# Altium schematic symbol library PyESPCar_Z1.SCHLIB: 23 symbols
Pins are listed as number, name and electrical type; pins without a type are passive.

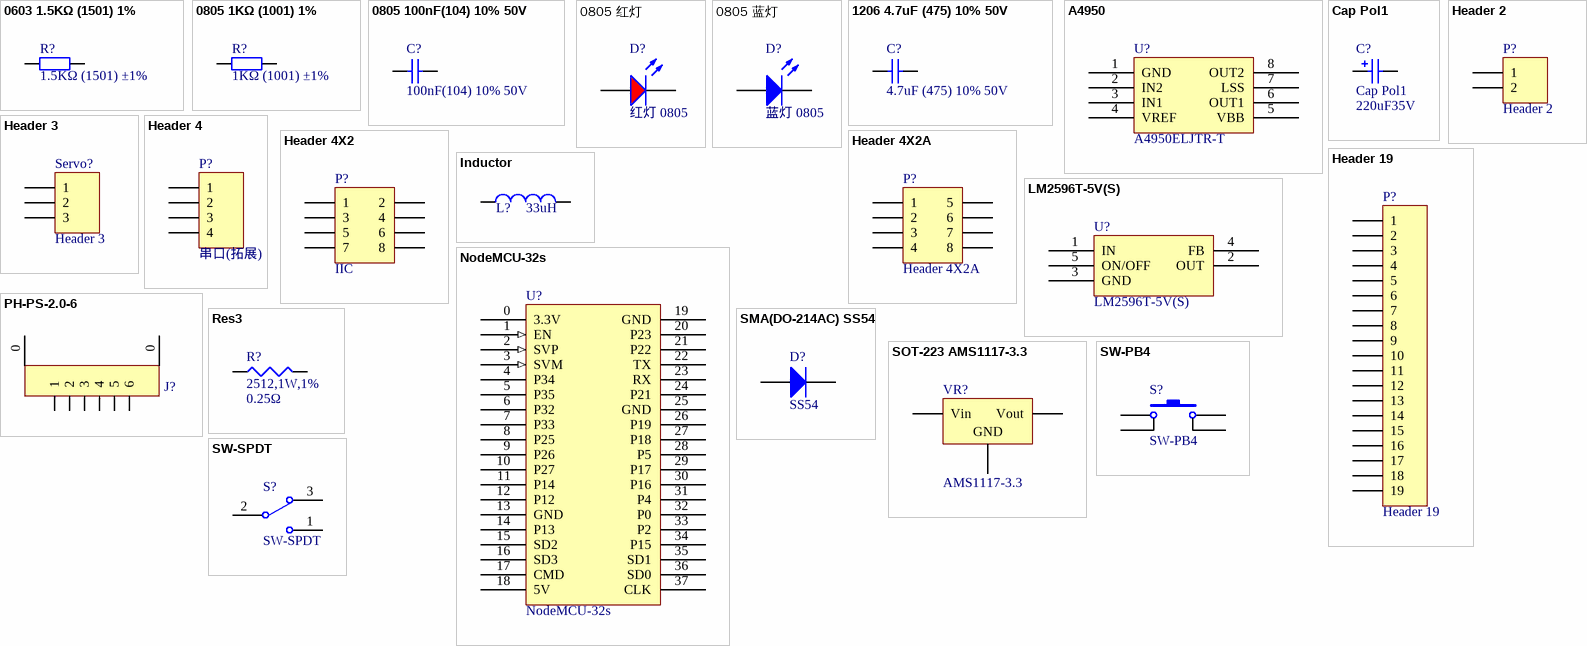
[diagram p0: symbols 0603 1.5KΩ (1501) 1% to SW-SPDT]

## 0603 1.5KΩ (1501) 1%
designator R?, comment 1.5KΩ (1501) ±1%
贴片电阻; ComponentLink1Description: 供应商链接; ComponentLink1URL: http://www.szlcsc.com/product/details_23570.html; Package: 0603; Supplier: LC; SuppliersPartNumber: C22843
footprint 0805_R
pins: 1, 2

## 0805 1KΩ (1001) 1%
designator R?, comment 1KΩ (1001) ±1%
贴片电阻; ComponentLink1Description: 供应商链接; ComponentLink1URL: http://www.szlcsc.com/product/details_18201.html; Package: 0805; Supplier: LC; SuppliersPartNumber: C17513
footprint 0805_R
pins: 1, 2

## 0805 100nF(104) 10% 50V
designator C?, comment 100nF(104) 10% 50V
贴片电容; ComponentLink1Description: 供应商链接; ComponentLink1URL: http://www.szlcsc.com/product/details_50686.html; Package: 0805; Supplier: LC; SuppliersPartNumber: C49678
footprint 0805_C
pins: 1, 2

## 0805 红灯
designator D?, comment 红灯 0805
发光二极管; ComponentLink1Description: 供应商链接; ComponentLink1URL: http://www.szlcsc.com/product/details_2668.html; Package: 0805; Supplier: LC; SuppliersPartNumber: C2295
footprint 0805_LED_S1
pins: A, K

## 0805 蓝灯
designator D?, comment 蓝灯 0805
发光二极管; ComponentLink1Description: 供应商链接; ComponentLink1URL: http://www.szlcsc.com/product/details_2666.html; Package: 0805; Supplier: LC; SuppliersPartNumber: C2293
footprint 0805_LED_S1
pins: A, K

## 1206 4.7uF (475) 10% 50V
designator C?, comment 4.7uF (475) 10% 50V
贴片电容; ComponentLink1Description: 供应商链接; ComponentLink1URL: http://www.szlcsc.com/product/details_30577.html; Package: 1206; Supplier: LC; SuppliersPartNumber: C29823
footprint 1206_C
pins: 1, 2

## A4950
designator U?, comment A4950ELJTR-T
电机驱动芯片
footprint SOP-8_EP_150mil
pins: 1 GND, 2 IN2, 3 IN1, 4 VREF, 5 VBB, 6 OUT1, 7 LSS, 8 OUT2

## Cap Pol1
designator C?  value 220uF35V
铝解电容; Published: 8-Jun-2000; LatestRevisionDate: 17-Jul-2002; LatestRevisionNote: Re-released for DXP Platform.; PackageReference: RB7.6-15; Publisher: Altium Limited; PackageDescription: Polarized Capacitor (Radial); 2 Leads
footprint CAPM8485X103N (Footprint not found)
pins: 1, 2
1 alternate drawing of the same symbol

## Header 2
designator P?
Header, 2-Pin; LatestRevisionDate: 17-Jul-2002; LatestRevisionNote: Re-released for DXP Platform.; Publisher: Altium Limited
footprint HDR2X1_D1 (5.08mm端子)
pins: 1, 2

## Header 3
designator Servo?
Header, 3-Pin; LatestRevisionDate: 17-Jul-2002; LatestRevisionNote: Re-released for DXP Platform.; Publisher: Altium Limited
footprint HDR1X3 (Connector; Header; 3 Position)
signal-integrity model Connector
pins: 1, 2, 3

## Header 4
designator P?, comment 串口(拓展)
Header, 4-Pin; LatestRevisionDate: 17-Jul-2002; LatestRevisionNote: Re-released for DXP Platform.; Publisher: Altium Limited
footprint HDR1X4 (Connector; Header; 4 Position)
signal-integrity model Connector
pins: 1, 2, 3, 4

## Header 4X2
designator P?, comment IIC
Header, 4-Pin, Dual row; LatestRevisionDate: 17-Jul-2002; LatestRevisionNote: Re-released for DXP Platform.; Publisher: Altium Limited
footprint HDR2X4 (Connector; Header; 4x2 Position)
signal-integrity model Connector
pins: 1, 2, 3, 4, 5, 6, 7, 8

## Header 4X2A
designator P?
Header, 4-Pin, Dual row; LatestRevisionDate: 17-Jul-2002; LatestRevisionNote: Re-released for DXP Platform.; Publisher: Altium Limited
footprint HDR2X4_CEN (Connector; Header; 4x2 Position)
signal-integrity model Connector
pins: 1, 2, 3, 4, 5, 6, 7, 8

## Header 19
designator P?
Header, 19-Pin; LatestRevisionDate: 17-Jul-2002; LatestRevisionNote: Re-released for DXP Platform.; Publisher: Altium Limited
footprint HDR1X19 (Connector; Header; 19 Position)
signal-integrity model Connector
pins: 1, 2, 3, 4, 5, 6, 7, 8, 9, 10, 11, 12, 13, 14, 15, 16, 17, 18, 19

## Inductor
designator L?  value 33uH  (hidden comment: Inductor)
贴片功率电感; Code_IEC: 1005; Published: 8-Jun-2000; LatestRevisionDate: 29-May-2009; LatestRevisionNote: IPC-7351 Footprint Added.; PackageReference: 0402-A; Publisher: Altium Limited; PackageDescription: Chip Inductor; Code_JEITA: 0402
footprint CAPM100100X103N
pins: 1, 2

## LM2596T-5V(S)
designator U?
footprint DPAK170P1534X450-6N (Footprint not found)
footprint TO-263-5
pins: 1 IN, 2 OUT, 3 GND, 4 FB, 5 ON/OFF

## NodeMCU-32s
designator U?
footprint NodeMCU_ESP32 (Footprint not found)
footprint NodeMCU_ESP32
pins: 0 3.3V (power), 1 EN (in), 2 SVP (in), 3 SVM (in), 4 P34, 5 P35, 6 P32, 7 P33, 8 P25, 9 P26, 10 P27, 11 P14, 12 P12, 13 GND (power), 14 P13, 15 SD2, 16 SD3, 17 CMD, 18 5V (power), 19 GND (power), 20 P23, 21 P22, 22 TX, 23 RX, 24 P21, 25 GND (power), 26 P19, 27 P18, 28 P5, 29 P17, 30 P16, 31 P4, 32 P0, 33 P2, 34 P15, 35 SD1, 36 SD0, 37 CLK

## PH-PS-2.0-6
designator J?  (value not drawn)
footprint PH-PS-2.0-6
pins: 0, 0, 1, 2, 3, 4, 5, 6

## Res3
designator R?, comment 2512,1W,1%  value 0.25Ω
超低阻值电阻; Published: 8-Jun-2000; LatestRevisionDate: 29-May-2009; LatestRevisionNote: IPC-7351 Footprint Added.; PackageReference: J1-0603; Publisher: Altium Limited; PackageDescription: Chip Resistor
footprint 2512 (保险丝)
pins: 1, 2

## SMA(DO-214AC) SS54
designator D?, comment SS54
二极管; ComponentLink1Description: 供应商链接; ComponentLink1URL: http://www.szlcsc.com/product/details_23178.html; Package: SMA(DO-214AC); Supplier: LC; SuppliersPartNumber: C22452
footprint SMA(DO-214AC)_S1
pins: 1 A, 2 K

## SOT-223 AMS1117-3.3
designator VR?, comment AMS1117-3.3
低压差线性稳压(LDO); ComponentLink1Description: 供应商链接; ComponentLink1URL: http://www.szlcsc.com/product/details_6652.html; Package: SOT-223; Supplier: LC; SuppliersPartNumber: C6186
footprint SOT-223
pins: 1 GND, 2 Vout, 3 Vin

## SW-PB4
designator S?
贴片微动开关; Published: 24-Mar-1999; LatestRevisionDate: 17-Jul-2002; LatestRevisionNote: Re-released for DXP Platform.; PackageReference: SPST-2; Publisher: Altium Limited
footprint SW_PB4_A1
pins: 1, 2, 3, 4

## SW-SPDT
designator S?
SPDT Subminiature Toggle Switch, Right Angle Mounting, Vertical Actuation; Published: 24-Mar-1999; LatestRevisionDate: 17-Dec-2003; LatestRevisionNote: Schematic revised, PCB Footprint replaced.; DatasheetVersion: 05-Dec-2000; PackageReference: TL36WW15050; Publisher: Altium Limited; PackageDescription: Switch; 4 Leads; ComponentLink1Description: Manufacturer Link; ComponentLink1URL: http://www.apem.com
footprint TL36WW15050 (Switch; 4 Leads)
footprint SW-3
pins: 1, 2, 3